# EAGLE library part XB24CZ7RISB003 (library SHC)
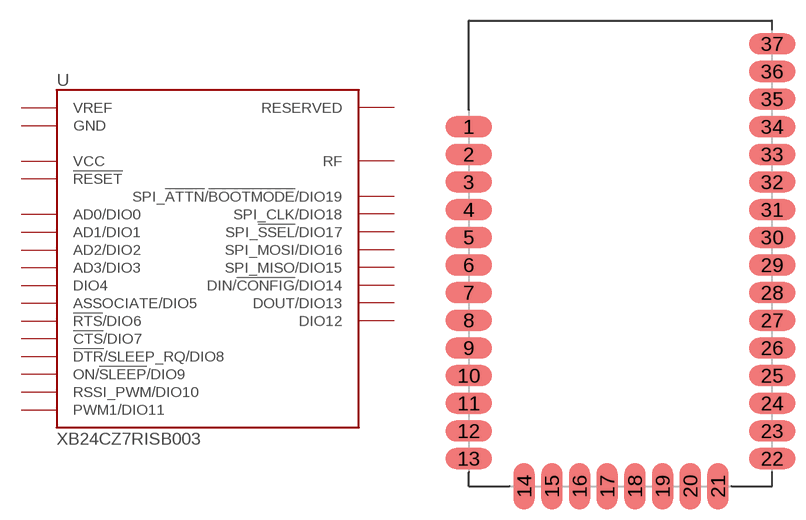
[diagram p40: symbol with the pads of XB24CZ7RISB003; footprint XB24CZ7RISB003]

Designator prefix -

## XB24CZ7RISB003  [XB24CZ7RISB003]
1  GND
2  VCC
3  DOUT/DIO13
4  DIN/!CONFIG!/DIO14
5  DIO12
6  !RESET
7  RSSI_PWM/DIO10
8  PWM1/DIO11
9  RESERVED  nc
10  !DTR!/SLEEP_RQ/DIO8
11  GND
12  SPI_!ATTN!/!BOOTMODE!/DIO19
13  GND
14  SPI_CLK/DIO18
15  SPI_!SSEL!/DIO17
16  SPI_MOSI/DIO16
17  SPI_MISO/DIO15
18  RESERVED  nc
19  RESERVED  nc
20  RESERVED  nc
21  RESERVED  nc
22  GND
23  RESERVED  nc
24  DIO4
25  !CTS!/DIO7
26  ON/!SLEEP!/DIO9
27  VREF
28  ASSOCIATE/DIO5
29  !RTS!/DIO6
30  AD3/DIO3
31  AD2/DIO2
32  AD1/DIO1
33  AD0/DIO0
34  RESERVED  nc
35  GND
36  RF
37  RESERVED  nc

## Footprint XB24CZ7RISB003 (pad centres in mm)
smd 3.353 x 1.524: 1 -10.998,9.195; 2 -10.998,7.188; 3 -10.998,5.182; 4 -10.998,3.175; 5 -10.998,1.168; 6 -10.998,-0.838; 7 -10.998,-2.845; 8 -10.998,-4.851; 9 -10.998,-6.858; 10 -10.998,-8.865; 11 -10.998,-10.871; 12 -10.998,-12.878; 13 -10.998,-14.884; 22 10.998,-14.884; 23 10.998,-12.878; 24 10.998,-10.871; 25 10.998,-8.865; 26 10.998,-6.858; 27 10.998,-4.851; 28 10.998,-2.845; 29 10.998,-0.838; 30 10.998,1.168; 31 10.998,3.175; 32 10.998,5.182; 33 10.998,7.188; 34 10.998,9.195; 35 10.998,11.201; 36 10.998,13.208; 37 10.998,15.215
smd 1.524 x 3.353: 14 -6.985,-16.891; 15 -4.978,-16.891; 16 -2.972,-16.891; 17 -0.965,-16.891; 18 1.041,-16.891; 19 3.048,-16.891; 20 5.055,-16.891; 21 7.061,-16.891